# Altium footprint library Footprint_Switch.PcbLib: 2 footprints
Each footprint in its own frame and in the unit in brackets; x right, y up, seen from the top. Pads: shape width x height; smd on the part's side, far side on the other; paste and mask are expansions set on the pad; w line width, h text height; cw(c..) or ccw(c..) is an arc to the next point about the centre after c.
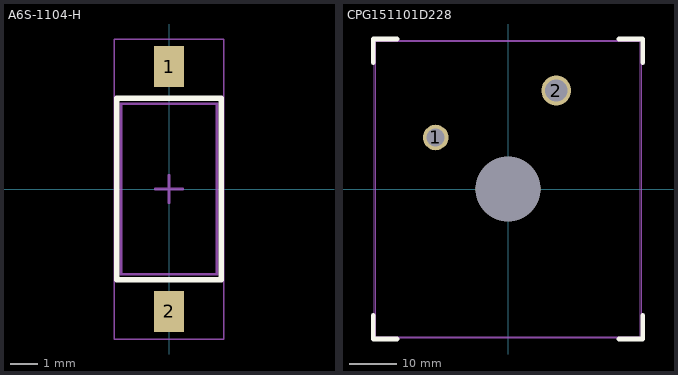
[diagram p0: the footprints below, top view; thin cyan lines are the x and y axes]

## A6S-1104-H [mm] "OMRON ELECTRONIC COMPONENTS   A6S1104H   DIP / SIP Switch, SPST, DIP Unsealed, SMD, 25 mA, 24 VDC"
pads (2):
  rect 1.1x1.5 smd: 1(0,4.45) 2(0,-4.45)
Top Overlay:
  lines w0.2: -1.9,-3.3 1.9,-3.3 1.9,3.3 -1.9,3.3 -1.9,-3.3
Top Assembly:
  lines w0.1: -1.74,-3.1 1.74,-3.1 1.74,3.1 -1.74,3.1 -1.74,-3.1
  text ".Designator" at 1.143,-7.747 h1.27
Top Courtyard:
  lines w0.05: -1.99,-5.45 1.99,-5.45 1.99,5.45 -1.99,5.45 -1.99,-5.45
  lines w0.1: -0.5,0 0.5,0 ; 0,-0.5 0,0.5
3D body "19709.stp": height 4.4, standoff 0, extent -1.74,-4.9 1.74,4.9

## CPG151101D228 [mm] "NOVELKEYS BIG SWITCH BURNT ORANGE"
pads (3):
  round 5.4 hole 3.8: 1(-15.24,10.85)
  round 6.3 hole 4.7: 2(10.16,20.74)
  round 13.6 hole 13.6: ""(0,0)
Top Overlay:
  lines w1: -28.4,-26.6 -28.4,-31.6 -23.4,-31.6 ; -28.4,26.6 -28.4,31.6 -23.4,31.6 ; 23.4,-31.6 28.4,-31.6 28.4,-26.6 ; 23.4,31.6 28.4,31.6 28.4,26.6
Top Assembly:
  lines w0.1: -27.9,-31.1 -27.9,31.1 27.9,31.1 27.9,-31.1 -27.9,-31.1
  text ".Designator" at -23.368,-6.35 h3.81
Top Courtyard:
  lines w0.05: -28.15,-31.35 -28.15,31.35 28.15,31.35 28.15,-31.35 -28.15,-31.35
  lines w0.1: -0.5,0 0.5,0 ; 0,-0.5 0,0.5
3D body "switch_mx v3.step": height 59.4, standoff -12.2, extent -31.28,-32.66 31.28,32.66